# Altium schematic symbol library ideal-diodes.SchLib: 1 symbol
Pins are listed as number, name and electrical type; pins without a type are passive.

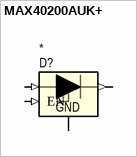
[diagram p0: symbol MAX40200AUK+]

## MAX40200AUK+
designator D?
pins: 1 VDD (in), 2 GND (power), 3 EN (in), 5 OUT (out)